# Altium schematic symbol library QUTMS_OpAmpLibrary.SchLib: 4 symbols
Pins are listed as number, name and electrical type; pins without a type are passive.

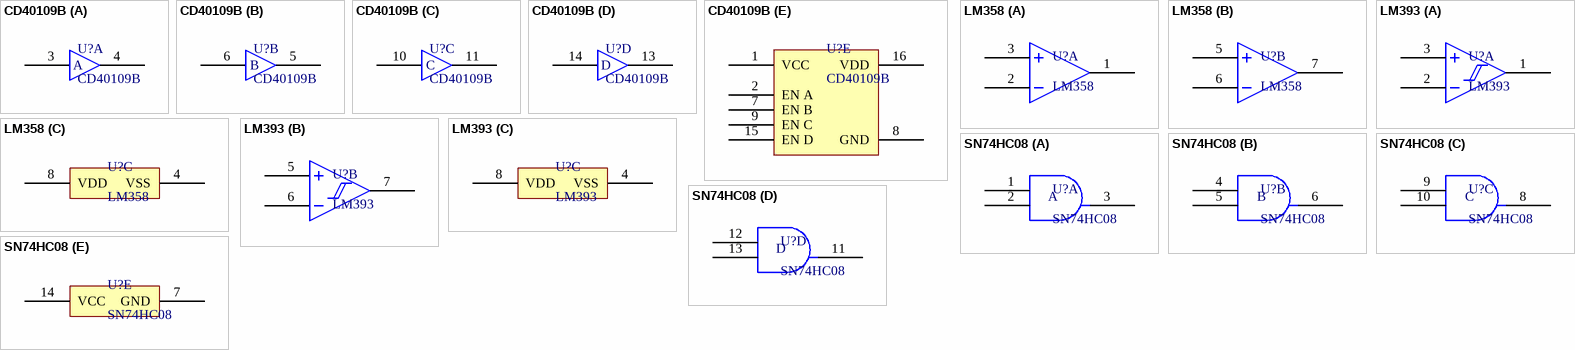
[diagram p0: symbols CD40109B to SN74HC08]

## CD40109B
designator U?
Voltage Level Translator Unidirectional 4 Circuit 1 Channel 16-TSSOP
footprint TSSOP-16
part A pins: 3 A, 4 E
part B pins: 5 F, 6 B
part C pins: 10 C, 11 G
part D pins: 13 H, 14 D
part E pins: 1 VCC, 2 EN A, 7 EN B, 8 GND, 9 EN C, 15 EN D, 16 VDD

## LM358
designator U?
General Purpose Amplifier 2 Circuit 8-SOIC
footprint SOIC-8
footprint TSSOP-8
part A pins: 1 OUT1, 2 IN1-, 3 IN1+
part B pins: 5 IN2+, 6 IN2-, 7 OUT1
part C pins: 4 VSS, 8 VDD

## LM393
designator U?
General Purpose Comparitor 2 Circuit 8-SOIC
footprint SOIC-8
footprint TSSOP-8
part A pins: 1 OUT1, 2 IN1-, 3 IN1+
part B pins: 5 IN2+, 6 IN2-, 7 OUT1
part C pins: 4 VSS, 8 VDD

## SN74HC08
designator U?
Quadruple 2-Input Positive-AND Gates
footprint TSSOP-14
part A pins: 1 1A, 2 1B, 3 1Y
part B pins: 4 2A, 5 2B, 6 2Y
part C pins: 8 3Y, 9 3A, 10 3B
part D pins: 11 4Y, 12 4A, 13 4B
part E pins: 7 GND, 14 VCC
part A text: A
part B text: B
part C text: C
part D text: D